# EAGLE library part TPS61202 (library Pinoccio)
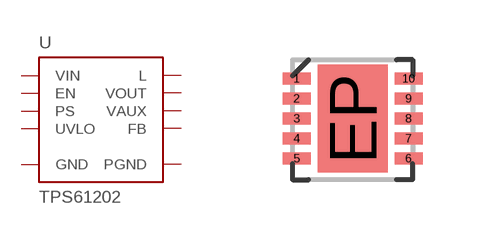
[diagram p41: symbol with the pads of QFN-10; footprint QFN-10]

Designator prefix -

## TPS61202  [QFN-10]
1  VAUX
2  VOUT
3  L
4  PGND
5  VIN
6  EN
7  UVLO
8  PS
9  GND
10  FB
EP  PGND

## Footprint QFN-10 (pad centres in mm)
smd 0.7 x 0.3: 1 -1.4,1; 2 -1.4,0.5; 3 -1.4,0; 4 -1.4,-0.5; 5 -1.4,-1; 6 1.4,-1; 7 1.4,-0.5; 8 1.4,0; 9 1.4,0.5; 10 1.4,1
smd 1.75 x 2.7: EP 0,0